# Altium footprint library Connector_Molex.PcbLib: 815 footprints (part 44 of 51)
Each footprint in its own frame and in the unit in brackets; x right, y up, seen from the top. Pads: shape width x height; smd on the part's side, far side on the other; paste and mask are expansions set on the pad; w line width, h text height; cw(c..) or ccw(c..) is an arc to the next point about the centre after c.
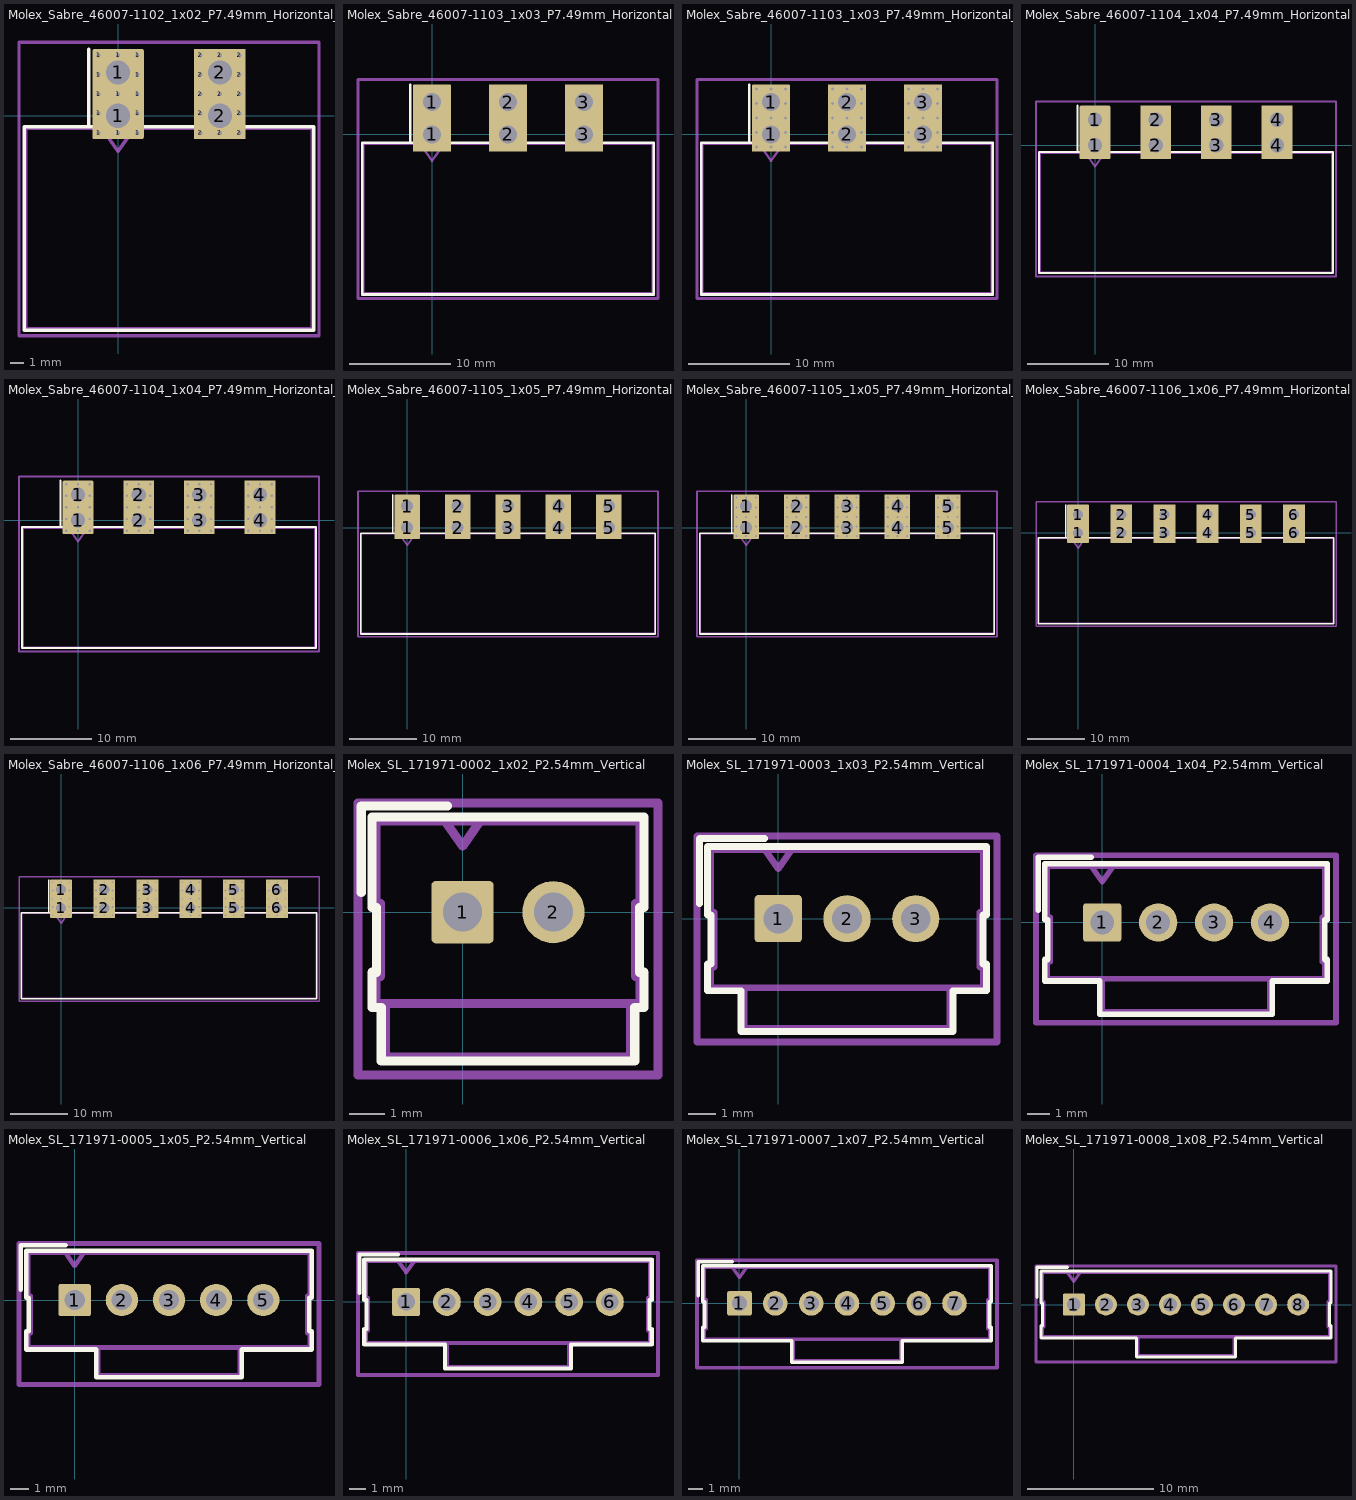
[diagram p43: the footprints below, top view; thin cyan lines are the x and y axes]

## Molex_Sabre_46007-1102_1x02_P7.49mm_Horizontal_ThermalVias [mm]
pads (30):
  rrect25% 0.6x0.6 hole 0.3: 1(-1.44,-1.265) 1(-1.44,0.162) 1(-1.44,1.59) 1(-1.44,3.017) 1(-1.44,4.445) 1(0,-1.265) 1(0,1.59) 1(0,4.445) 1(1.44,-1.265) 1(1.44,0.162) 1(1.44,1.59) 1(1.44,3.017) 1(1.44,4.445)
  rrect7% 3.78x3.43 hole 1.78: 1(0,0) 1(0,3.18)
  round 0.6 hole 0.3: 2(6.05,-1.265) 2(6.05,0.162) 2(6.05,1.59) 2(6.05,3.017) 2(6.05,4.445) 2(7.49,-1.265) 2(7.49,1.59) 2(7.49,4.445) 2(8.93,-1.265) 2(8.93,0.162) 2(8.93,1.59) 2(8.93,3.017) 2(8.93,4.445)
  rect 3.78x3.43 hole 1.78: 2(7.49,0) 2(7.49,3.18)
F.SilkS:
  lines w0.254: -2.15,-0.815 -2.15,4.895 ; 2.15,-0.815 5.34,-0.815 ; -6.9,-15.795 14.39,-15.795 14.39,-0.815 -6.9,-0.815 -6.9,-15.795
B.SilkS:
  lines w0.254: -2.15,-1.975 2.15,-1.975 2.15,5.155 -2.15,5.155 -2.15,-1.975
Top Assembly:
  lines w0.254: -1.2,-0.925 0,-2.622 1.2,-0.925 ; -6.79,-15.685 14.28,-15.685 14.28,-0.925 -6.79,-0.925 -6.79,-15.685 ; -0.5,-0.925 0.5,-0.925 0.5,4.07 -0.5,4.07 -0.5,-0.925 ; 6.99,-0.925 7.99,-0.925 7.99,4.07 6.99,4.07 6.99,-0.925
  text "'.Designator'" at -0.297,-15.82 h1
Top Courtyard:
  lines w0.254: -7.29,-16.19 14.78,-16.19 14.78,5.4 -7.29,5.4 -7.29,-16.19
Top Designator:
  text ".Designator" at -3.873,-5.903 h1.52

## Molex_Sabre_46007-1103_1x03_P7.49mm_Horizontal [mm]
pads (6):
  rrect7% 3.78x3.43 hole 1.78: 1(0,0) 1(0,3.18)
  rect 3.78x3.43 hole 1.78: 2(7.49,0) 2(7.49,3.18) 3(14.98,0) 3(14.98,3.18)
F.SilkS:
  lines w0.254: -2.15,-0.815 -2.15,4.895 ; 2.15,-0.815 5.34,-0.815 ; 9.64,-0.815 12.83,-0.815 ; -6.9,-15.795 21.88,-15.795 21.88,-0.815 -6.9,-0.815 -6.9,-15.795
B.SilkS:
  lines w0.254: -2.15,-1.975 2.15,-1.975 2.15,5.155 -2.15,5.155 -2.15,-1.975
Top Assembly:
  lines w0.254: -1.2,-0.925 0,-2.622 1.2,-0.925 ; -6.79,-15.685 21.77,-15.685 21.77,-0.925 -6.79,-0.925 -6.79,-15.685 ; -0.5,-0.925 0.5,-0.925 0.5,4.07 -0.5,4.07 -0.5,-0.925 ; 6.99,-0.925 7.99,-0.925 7.99,4.07 6.99,4.07 6.99,-0.925 ; 14.48,-0.925 15.48,-0.925 15.48,4.07 14.48,4.07 14.48,-0.925
  text "'.Designator'" at 3.443,-15.82 h1
Top Courtyard:
  lines w0.254: -7.3,-16.19 22.28,-16.19 22.28,5.4 -7.3,5.4 -7.3,-16.19
Top Designator:
  text ".Designator" at -0.128,-5.903 h1.52

## Molex_Sabre_46007-1103_1x03_P7.49mm_Horizontal_ThermalVias [mm]
pads (45):
  rrect25% 0.6x0.6 hole 0.3: 1(-1.44,-1.265) 1(-1.44,0.162) 1(-1.44,1.59) 1(-1.44,3.017) 1(-1.44,4.445) 1(0,-1.265) 1(0,1.59) 1(0,4.445) 1(1.44,-1.265) 1(1.44,0.162) 1(1.44,1.59) 1(1.44,3.017) 1(1.44,4.445)
  rrect7% 3.78x3.43 hole 1.78: 1(0,0) 1(0,3.18)
  round 0.6 hole 0.3: 2(6.05,-1.265) 2(6.05,0.162) 2(6.05,1.59) 2(6.05,3.017) 2(6.05,4.445) 2(7.49,-1.265) 2(7.49,1.59) 2(7.49,4.445) 2(8.93,-1.265) 2(8.93,0.162) 2(8.93,1.59) 2(8.93,3.017) 2(8.93,4.445) 3(13.54,-1.265) 3(13.54,0.162) 3(13.54,1.59) 3(13.54,3.017) 3(13.54,4.445) 3(14.98,-1.265) 3(14.98,1.59) 3(14.98,4.445) 3(16.42,-1.265) 3(16.42,0.162) 3(16.42,1.59) 3(16.42,3.017) 3(16.42,4.445)
  rect 3.78x3.43 hole 1.78: 2(7.49,0) 2(7.49,3.18) 3(14.98,0) 3(14.98,3.18)
F.SilkS:
  lines w0.254: -2.15,-0.815 -2.15,4.895 ; 2.15,-0.815 5.34,-0.815 ; 9.64,-0.815 12.83,-0.815 ; -6.9,-15.795 21.88,-15.795 21.88,-0.815 -6.9,-0.815 -6.9,-15.795
B.SilkS:
  lines w0.254: -2.15,-1.975 2.15,-1.975 2.15,5.155 -2.15,5.155 -2.15,-1.975
Top Assembly:
  lines w0.254: -1.2,-0.925 0,-2.622 1.2,-0.925 ; -6.79,-15.685 21.77,-15.685 21.77,-0.925 -6.79,-0.925 -6.79,-15.685 ; -0.5,-0.925 0.5,-0.925 0.5,4.07 -0.5,4.07 -0.5,-0.925 ; 6.99,-0.925 7.99,-0.925 7.99,4.07 6.99,4.07 6.99,-0.925 ; 14.48,-0.925 15.48,-0.925 15.48,4.07 14.48,4.07 14.48,-0.925
  text "'.Designator'" at 3.443,-15.82 h1
Top Courtyard:
  lines w0.254: -7.3,-16.19 22.28,-16.19 22.28,5.4 -7.3,5.4 -7.3,-16.19
Top Designator:
  text ".Designator" at -0.128,-5.903 h1.52

## Molex_Sabre_46007-1104_1x04_P7.49mm_Horizontal [mm]
pads (8):
  rrect7% 3.78x3.43 hole 1.78: 1(0,0) 1(0,3.18)
  rect 3.78x3.43 hole 1.78: 2(7.49,0) 2(7.49,3.18) 3(14.98,0) 3(14.98,3.18) 4(22.47,0) 4(22.47,3.18)
F.SilkS:
  lines w0.254: -2.15,-0.815 -2.15,4.895 ; 2.15,-0.815 5.34,-0.815 ; 9.64,-0.815 12.83,-0.815 ; 17.13,-0.815 20.32,-0.815 ; -6.9,-15.795 29.37,-15.795 29.37,-0.815 -6.9,-0.815 -6.9,-15.795
B.SilkS:
  lines w0.254: -2.15,-1.975 2.15,-1.975 2.15,5.155 -2.15,5.155 -2.15,-1.975
Top Assembly:
  lines w0.254: -1.2,-0.925 0,-2.622 1.2,-0.925 ; -6.79,-15.685 29.26,-15.685 29.26,-0.925 -6.79,-0.925 -6.79,-15.685 ; -0.5,-0.925 0.5,-0.925 0.5,4.07 -0.5,4.07 -0.5,-0.925 ; 6.99,-0.925 7.99,-0.925 7.99,4.07 6.99,4.07 6.99,-0.925 ; 14.48,-0.925 15.48,-0.925 15.48,4.07 14.48,4.07 14.48,-0.925 ; 21.97,-0.925 22.97,-0.925 22.97,4.07 21.97,4.07 21.97,-0.925
  text "'.Designator'" at 7.193,-15.82 h1
Top Courtyard:
  lines w0.254: -7.29,-16.19 29.76,-16.19 29.76,5.4 -7.29,5.4 -7.29,-16.19
Top Designator:
  text ".Designator" at 3.617,-5.903 h1.52

## Molex_Sabre_46007-1104_1x04_P7.49mm_Horizontal_ThermalVias [mm]
pads (60):
  rrect25% 0.6x0.6 hole 0.3: 1(-1.44,-1.265) 1(-1.44,0.162) 1(-1.44,1.59) 1(-1.44,3.017) 1(-1.44,4.445) 1(0,-1.265) 1(0,1.59) 1(0,4.445) 1(1.44,-1.265) 1(1.44,0.162) 1(1.44,1.59) 1(1.44,3.017) 1(1.44,4.445)
  rrect7% 3.78x3.43 hole 1.78: 1(0,0) 1(0,3.18)
  round 0.6 hole 0.3: 2(6.05,-1.265) 2(6.05,0.162) 2(6.05,1.59) 2(6.05,3.017) 2(6.05,4.445) 2(7.49,-1.265) 2(7.49,1.59) 2(7.49,4.445) 2(8.93,-1.265) 2(8.93,0.162) 2(8.93,1.59) 2(8.93,3.017) 2(8.93,4.445) 3(13.54,-1.265) 3(13.54,0.162) 3(13.54,1.59) 3(13.54,3.017) 3(13.54,4.445) 3(14.98,-1.265) 3(14.98,1.59) 3(14.98,4.445) 3(16.42,-1.265) 3(16.42,0.162) 3(16.42,1.59) 3(16.42,3.017) 3(16.42,4.445) 4(21.03,-1.265) 4(21.03,0.162) 4(21.03,1.59) 4(21.03,3.017) 4(21.03,4.445) 4(22.47,-1.265) 4(22.47,1.59) 4(22.47,4.445) 4(23.91,-1.265) 4(23.91,0.162) 4(23.91,1.59) 4(23.91,3.017) 4(23.91,4.445)
  rect 3.78x3.43 hole 1.78: 2(7.49,0) 2(7.49,3.18) 3(14.98,0) 3(14.98,3.18) 4(22.47,0) 4(22.47,3.18)
F.SilkS:
  lines w0.254: -2.15,-0.815 -2.15,4.895 ; 2.15,-0.815 5.34,-0.815 ; 9.64,-0.815 12.83,-0.815 ; 17.13,-0.815 20.32,-0.815 ; -6.9,-15.795 29.37,-15.795 29.37,-0.815 -6.9,-0.815 -6.9,-15.795
B.SilkS:
  lines w0.254: -2.15,-1.975 2.15,-1.975 2.15,5.155 -2.15,5.155 -2.15,-1.975
Top Assembly:
  lines w0.254: -1.2,-0.925 0,-2.622 1.2,-0.925 ; -6.79,-15.685 29.26,-15.685 29.26,-0.925 -6.79,-0.925 -6.79,-15.685 ; -0.5,-0.925 0.5,-0.925 0.5,4.07 -0.5,4.07 -0.5,-0.925 ; 6.99,-0.925 7.99,-0.925 7.99,4.07 6.99,4.07 6.99,-0.925 ; 14.48,-0.925 15.48,-0.925 15.48,4.07 14.48,4.07 14.48,-0.925 ; 21.97,-0.925 22.97,-0.925 22.97,4.07 21.97,4.07 21.97,-0.925
  text "'.Designator'" at 7.193,-15.82 h1
Top Courtyard:
  lines w0.254: -7.29,-16.19 29.76,-16.19 29.76,5.4 -7.29,5.4 -7.29,-16.19
Top Designator:
  text ".Designator" at 3.617,-5.903 h1.52

## Molex_Sabre_46007-1105_1x05_P7.49mm_Horizontal [mm]
pads (10):
  rrect7% 3.78x3.43 hole 1.78: 1(0,0) 1(0,3.18)
  rect 3.78x3.43 hole 1.78: 2(7.49,0) 2(7.49,3.18) 3(14.98,0) 3(14.98,3.18) 4(22.47,0) 4(22.47,3.18) 5(29.96,0) 5(29.96,3.18)
F.SilkS:
  lines w0.254: -2.15,-0.815 -2.15,4.895 ; 2.15,-0.815 5.34,-0.815 ; 9.64,-0.815 12.83,-0.815 ; 17.13,-0.815 20.32,-0.815 ; 24.62,-0.815 27.81,-0.815 ; -6.9,-15.795 36.86,-15.795 36.86,-0.815 -6.9,-0.815 -6.9,-15.795
B.SilkS:
  lines w0.254: -2.15,-1.975 2.15,-1.975 2.15,5.155 -2.15,5.155 -2.15,-1.975
Top Assembly:
  lines w0.254: -1.2,-0.925 0,-2.622 1.2,-0.925 ; -6.79,-15.685 36.75,-15.685 36.75,-0.925 -6.79,-0.925 -6.79,-15.685 ; -0.5,-0.925 0.5,-0.925 0.5,4.07 -0.5,4.07 -0.5,-0.925 ; 6.99,-0.925 7.99,-0.925 7.99,4.07 6.99,4.07 6.99,-0.925 ; 14.48,-0.925 15.48,-0.925 15.48,4.07 14.48,4.07 14.48,-0.925 ; 21.97,-0.925 22.97,-0.925 22.97,4.07 21.97,4.07 21.97,-0.925 ; 29.46,-0.925 30.46,-0.925 30.46,4.07 29.46,4.07 29.46,-0.925
  text "'.Designator'" at 10.933,-15.82 h1
Top Courtyard:
  lines w0.254: -7.29,-16.19 37.25,-16.19 37.25,5.4 -7.29,5.4 -7.29,-16.19
Top Designator:
  text ".Designator" at 7.362,-5.903 h1.52

## Molex_Sabre_46007-1105_1x05_P7.49mm_Horizontal_ThermalVias [mm]
pads (75):
  rrect25% 0.6x0.6 hole 0.3: 1(-1.44,-1.265) 1(-1.44,0.162) 1(-1.44,1.59) 1(-1.44,3.017) 1(-1.44,4.445) 1(0,-1.265) 1(0,1.59) 1(0,4.445) 1(1.44,-1.265) 1(1.44,0.162) 1(1.44,1.59) 1(1.44,3.017) 1(1.44,4.445)
  rrect7% 3.78x3.43 hole 1.78: 1(0,0) 1(0,3.18)
  round 0.6 hole 0.3: 2(6.05,-1.265) 2(6.05,0.162) 2(6.05,1.59) 2(6.05,3.017) 2(6.05,4.445) 2(7.49,-1.265) 2(7.49,1.59) 2(7.49,4.445) 2(8.93,-1.265) 2(8.93,0.162) 2(8.93,1.59) 2(8.93,3.017) 2(8.93,4.445) 3(13.54,-1.265) 3(13.54,0.162) 3(13.54,1.59) 3(13.54,3.017) 3(13.54,4.445) 3(14.98,-1.265) 3(14.98,1.59) 3(14.98,4.445) 3(16.42,-1.265) 3(16.42,0.162) 3(16.42,1.59) 3(16.42,3.017) 3(16.42,4.445) 4(21.03,-1.265) 4(21.03,0.162) 4(21.03,1.59) 4(21.03,3.017) 4(21.03,4.445) 4(22.47,-1.265) 4(22.47,1.59) 4(22.47,4.445) 4(23.91,-1.265) 4(23.91,0.162) 4(23.91,1.59) 4(23.91,3.017) 4(23.91,4.445) 5(28.52,-1.265) 5(28.52,0.162) 5(28.52,1.59) 5(28.52,3.017) 5(28.52,4.445) 5(29.96,-1.265) 5(29.96,1.59) 5(29.96,4.445) 5(31.4,-1.265) 5(31.4,0.162) 5(31.4,1.59) 5(31.4,3.017) 5(31.4,4.445)
  rect 3.78x3.43 hole 1.78: 2(7.49,0) 2(7.49,3.18) 3(14.98,0) 3(14.98,3.18) 4(22.47,0) 4(22.47,3.18) 5(29.96,0) 5(29.96,3.18)
F.SilkS:
  lines w0.254: -2.15,-0.815 -2.15,4.895 ; 2.15,-0.815 5.34,-0.815 ; 9.64,-0.815 12.83,-0.815 ; 17.13,-0.815 20.32,-0.815 ; 24.62,-0.815 27.81,-0.815 ; -6.9,-15.795 36.86,-15.795 36.86,-0.815 -6.9,-0.815 -6.9,-15.795
B.SilkS:
  lines w0.254: -2.15,-1.975 2.15,-1.975 2.15,5.155 -2.15,5.155 -2.15,-1.975
Top Assembly:
  lines w0.254: -1.2,-0.925 0,-2.622 1.2,-0.925 ; -6.79,-15.685 36.75,-15.685 36.75,-0.925 -6.79,-0.925 -6.79,-15.685 ; -0.5,-0.925 0.5,-0.925 0.5,4.07 -0.5,4.07 -0.5,-0.925 ; 6.99,-0.925 7.99,-0.925 7.99,4.07 6.99,4.07 6.99,-0.925 ; 14.48,-0.925 15.48,-0.925 15.48,4.07 14.48,4.07 14.48,-0.925 ; 21.97,-0.925 22.97,-0.925 22.97,4.07 21.97,4.07 21.97,-0.925 ; 29.46,-0.925 30.46,-0.925 30.46,4.07 29.46,4.07 29.46,-0.925
  text "'.Designator'" at 10.933,-15.82 h1
Top Courtyard:
  lines w0.254: -7.29,-16.19 37.25,-16.19 37.25,5.4 -7.29,5.4 -7.29,-16.19
Top Designator:
  text ".Designator" at 7.362,-5.903 h1.52

## Molex_Sabre_46007-1106_1x06_P7.49mm_Horizontal [mm]
pads (12):
  rrect7% 3.78x3.43 hole 1.78: 1(0,0) 1(0,3.18)
  rect 3.78x3.43 hole 1.78: 2(7.49,0) 2(7.49,3.18) 3(14.98,0) 3(14.98,3.18) 4(22.47,0) 4(22.47,3.18) 5(29.96,0) 5(29.96,3.18) 6(37.45,0) 6(37.45,3.18)
F.SilkS:
  lines w0.254: -2.15,-0.815 -2.15,4.895 ; 2.15,-0.815 5.34,-0.815 ; 9.64,-0.815 12.83,-0.815 ; 17.13,-0.815 20.32,-0.815 ; 24.62,-0.815 27.81,-0.815 ; 32.11,-0.815 35.3,-0.815 ; -6.9,-15.795 44.35,-15.795 44.35,-0.815 -6.9,-0.815 -6.9,-15.795
B.SilkS:
  lines w0.254: -2.15,-1.975 2.15,-1.975 2.15,5.155 -2.15,5.155 -2.15,-1.975
Top Assembly:
  lines w0.254: -1.2,-0.925 0,-2.622 1.2,-0.925 ; -6.79,-15.685 44.24,-15.685 44.24,-0.925 -6.79,-0.925 -6.79,-15.685 ; -0.5,-0.925 0.5,-0.925 0.5,4.07 -0.5,4.07 -0.5,-0.925 ; 6.99,-0.925 7.99,-0.925 7.99,4.07 6.99,4.07 6.99,-0.925 ; 14.48,-0.925 15.48,-0.925 15.48,4.07 14.48,4.07 14.48,-0.925 ; 21.97,-0.925 22.97,-0.925 22.97,4.07 21.97,4.07 21.97,-0.925 ; 29.46,-0.925 30.46,-0.925 30.46,4.07 29.46,4.07 29.46,-0.925 ; 36.95,-0.925 37.95,-0.925 37.95,4.07 36.95,4.07 36.95,-0.925
  text "'.Designator'" at 14.673,-15.82 h1
Top Courtyard:
  lines w0.254: -7.29,-16.19 44.74,-16.19 44.74,5.4 -7.29,5.4 -7.29,-16.19
Top Designator:
  text ".Designator" at 11.107,-5.903 h1.52

## Molex_Sabre_46007-1106_1x06_P7.49mm_Horizontal_ThermalVias [mm]
pads (90):
  rrect25% 0.6x0.6 hole 0.3: 1(-1.44,-1.265) 1(-1.44,0.162) 1(-1.44,1.59) 1(-1.44,3.017) 1(-1.44,4.445) 1(0,-1.265) 1(0,1.59) 1(0,4.445) 1(1.44,-1.265) 1(1.44,0.162) 1(1.44,1.59) 1(1.44,3.017) 1(1.44,4.445)
  rrect7% 3.78x3.43 hole 1.78: 1(0,0) 1(0,3.18)
  round 0.6 hole 0.3: 2(6.05,-1.265) 2(6.05,0.162) 2(6.05,1.59) 2(6.05,3.017) 2(6.05,4.445) 2(7.49,-1.265) 2(7.49,1.59) 2(7.49,4.445) 2(8.93,-1.265) 2(8.93,0.162) 2(8.93,1.59) 2(8.93,3.017) 2(8.93,4.445) 3(13.54,-1.265) 3(13.54,0.162) 3(13.54,1.59) 3(13.54,3.017) 3(13.54,4.445) 3(14.98,-1.265) 3(14.98,1.59) 3(14.98,4.445) 3(16.42,-1.265) 3(16.42,0.162) 3(16.42,1.59) 3(16.42,3.017) 3(16.42,4.445) 4(21.03,-1.265) 4(21.03,0.162) 4(21.03,1.59) 4(21.03,3.017) 4(21.03,4.445) 4(22.47,-1.265) 4(22.47,1.59) 4(22.47,4.445) 4(23.91,-1.265) 4(23.91,0.162) 4(23.91,1.59) 4(23.91,3.017) 4(23.91,4.445) 5(28.52,-1.265) 5(28.52,0.162) 5(28.52,1.59) 5(28.52,3.017) 5(28.52,4.445) 5(29.96,-1.265) 5(29.96,1.59) 5(29.96,4.445) 5(31.4,-1.265) 5(31.4,0.162) 5(31.4,1.59) 5(31.4,3.017) 5(31.4,4.445) 6(36.01,-1.265) 6(36.01,0.162) 6(36.01,1.59) 6(36.01,3.017) 6(36.01,4.445) 6(37.45,-1.265) 6(37.45,1.59) 6(37.45,4.445) 6(38.89,-1.265) 6(38.89,0.162) 6(38.89,1.59) 6(38.89,3.017) 6(38.89,4.445)
  rect 3.78x3.43 hole 1.78: 2(7.49,0) 2(7.49,3.18) 3(14.98,0) 3(14.98,3.18) 4(22.47,0) 4(22.47,3.18) 5(29.96,0) 5(29.96,3.18) 6(37.45,0) 6(37.45,3.18)
F.SilkS:
  lines w0.254: -2.15,-0.815 -2.15,4.895 ; 2.15,-0.815 5.34,-0.815 ; 9.64,-0.815 12.83,-0.815 ; 17.13,-0.815 20.32,-0.815 ; 24.62,-0.815 27.81,-0.815 ; 32.11,-0.815 35.3,-0.815 ; -6.9,-15.795 44.35,-15.795 44.35,-0.815 -6.9,-0.815 -6.9,-15.795
B.SilkS:
  lines w0.254: -2.15,-1.975 2.15,-1.975 2.15,5.155 -2.15,5.155 -2.15,-1.975
Top Assembly:
  lines w0.254: -1.2,-0.925 0,-2.622 1.2,-0.925 ; -6.79,-15.685 44.24,-15.685 44.24,-0.925 -6.79,-0.925 -6.79,-15.685 ; -0.5,-0.925 0.5,-0.925 0.5,4.07 -0.5,4.07 -0.5,-0.925 ; 6.99,-0.925 7.99,-0.925 7.99,4.07 6.99,4.07 6.99,-0.925 ; 14.48,-0.925 15.48,-0.925 15.48,4.07 14.48,4.07 14.48,-0.925 ; 21.97,-0.925 22.97,-0.925 22.97,4.07 21.97,4.07 21.97,-0.925 ; 29.46,-0.925 30.46,-0.925 30.46,4.07 29.46,4.07 29.46,-0.925 ; 36.95,-0.925 37.95,-0.925 37.95,4.07 36.95,4.07 36.95,-0.925
  text "'.Designator'" at 14.673,-15.82 h1
Top Courtyard:
  lines w0.254: -7.29,-16.19 44.74,-16.19 44.74,5.4 -7.29,5.4 -7.29,-16.19
Top Designator:
  text ".Designator" at 11.107,-5.903 h1.52

## Molex_SL_171971-0002_1x02_P2.54mm_Vertical [mm]
pads (2):
  rrect14% 1.74x1.74 hole 1.09: 1(0,0)
  round 1.74 hole 1.09: 2(2.54,0)
F.SilkS:
  lines w0.254: -2.83,0.55 -2.83,2.96 -0.42,2.96 ; -2.53,-2.66 -2.27,-2.66 -2.27,-4.16 4.81,-4.16 4.81,-2.66 5.07,-2.66 5.07,-1.68 4.94,-1.68 4.94,0.13 5.07,0.13 5.07,2.66 -2.53,2.66 -2.53,0.13 -2.4,0.13 -2.4,-1.68 -2.53,-1.68 -2.53,-2.66
Top Assembly:
  lines w0.254: -2.16,-2.55 -2.16,-4.05 4.7,-4.05 4.7,-2.55 ; -0.5,2.55 0,1.843 0.5,2.55 ; -2.42,-2.55 4.96,-2.55 4.96,-1.79 4.83,-1.79 4.83,0.24 4.96,0.24 4.96,2.55 -2.42,2.55 -2.42,0.24 -2.29,0.24 -2.29,-1.79 -2.42,-1.79 -2.42,-2.55
  text "'.Designator'" at -2.777,-2.69 h1
Top Courtyard:
  lines w0.254: -2.92,-4.55 5.46,-4.55 5.46,3.05 -2.92,3.05 -2.92,-4.55
Top Designator:
  text ".Designator" at -6.348,-1.258 h1.52

## Molex_SL_171971-0003_1x03_P2.54mm_Vertical [mm]
pads (3):
  rrect14% 1.74x1.74 hole 1.09: 1(0,0)
  round 1.74 hole 1.09: 2(2.54,0) 3(5.08,0)
F.SilkS:
  lines w0.254: -2.91,0.55 -2.91,2.96 -0.5,2.96 ; -2.61,-2.66 -1.38,-2.66 -1.38,-4.16 6.46,-4.16 6.46,-2.66 7.69,-2.66 7.69,-1.68 7.56,-1.68 7.56,0.13 7.69,0.13 7.69,2.66 -2.61,2.66 -2.61,0.13 -2.48,0.13 -2.48,-1.68 -2.61,-1.68 -2.61,-2.66
Top Assembly:
  lines w0.254: -1.27,-2.55 -1.27,-4.05 6.35,-4.05 6.35,-2.55 ; -0.5,2.55 0,1.843 0.5,2.55 ; -2.5,-2.55 7.58,-2.55 7.58,-1.79 7.45,-1.79 7.45,0.24 7.58,0.24 7.58,2.55 -2.5,2.55 -2.5,0.24 -2.37,0.24 -2.37,-1.79 -2.5,-1.79 -2.5,-2.55
  text "'.Designator'" at -1.507,-2.69 h1
Top Courtyard:
  lines w0.254: -3,-4.55 8.08,-4.55 8.08,3.05 -3,3.05 -3,-4.55
Top Designator:
  text ".Designator" at -5.078,-1.258 h1.52

## Molex_SL_171971-0004_1x04_P2.54mm_Vertical [mm]
pads (4):
  rrect14% 1.74x1.74 hole 1.09: 1(0,0)
  round 1.74 hole 1.09: 2(2.54,0) 3(5.08,0) 4(7.62,0)
F.SilkS:
  lines w0.254: -2.91,0.55 -2.91,2.96 -0.5,2.96 ; -2.61,-2.66 -0.11,-2.66 -0.11,-4.16 7.73,-4.16 7.73,-2.66 10.23,-2.66 10.23,-1.68 10.1,-1.68 10.1,0.13 10.23,0.13 10.23,2.66 -2.61,2.66 -2.61,0.13 -2.48,0.13 -2.48,-1.68 -2.61,-1.68 -2.61,-2.66
Top Assembly:
  lines w0.254: -0.5,2.55 0,1.843 0.5,2.55 ; 0,-2.55 0,-4.05 7.62,-4.05 7.62,-2.55 ; -2.5,-2.55 10.12,-2.55 10.12,-1.79 9.99,-1.79 9.99,0.24 10.12,0.24 10.12,2.55 -2.5,2.55 -2.5,0.24 -2.37,0.24 -2.37,-1.79 -2.5,-1.79 -2.5,-2.55
  text "'.Designator'" at -0.237,-2.69 h1
Top Courtyard:
  lines w0.254: -3.01,-4.55 10.62,-4.55 10.62,3.05 -3.01,3.05 -3.01,-4.55
Top Designator:
  text ".Designator" at -3.813,-1.258 h1.52

## Molex_SL_171971-0005_1x05_P2.54mm_Vertical [mm]
pads (5):
  rrect14% 1.74x1.74 hole 1.09: 1(0,0)
  round 1.74 hole 1.09: 2(2.54,0) 3(5.08,0) 4(7.62,0) 5(10.16,0)
F.SilkS:
  lines w0.254: -2.91,0.55 -2.91,2.96 -0.5,2.96 ; -2.61,-2.66 1.16,-2.66 1.16,-4.16 9,-4.16 9,-2.66 12.77,-2.66 12.77,-1.68 12.64,-1.68 12.64,0.13 12.77,0.13 12.77,2.66 -2.61,2.66 -2.61,0.13 -2.48,0.13 -2.48,-1.68 -2.61,-1.68 -2.61,-2.66
Top Assembly:
  lines w0.254: -0.5,2.55 0,1.843 0.5,2.55 ; 1.27,-2.55 1.27,-4.05 8.89,-4.05 8.89,-2.55 ; -2.5,-2.55 12.66,-2.55 12.66,-1.79 12.53,-1.79 12.53,0.24 12.66,0.24 12.66,2.55 -2.5,2.55 -2.5,0.24 -2.37,0.24 -2.37,-1.79 -2.5,-1.79 -2.5,-2.55
  text "'.Designator'" at 1.033,-2.69 h1
Top Courtyard:
  lines w0.254: -3,-4.55 13.16,-4.55 13.16,3.05 -3,3.05 -3,-4.55
Top Designator:
  text ".Designator" at -2.538,-1.258 h1.52

## Molex_SL_171971-0006_1x06_P2.54mm_Vertical [mm]
pads (6):
  rrect14% 1.74x1.74 hole 1.09: 1(0,0)
  round 1.74 hole 1.09: 2(2.54,0) 3(5.08,0) 4(7.62,0) 5(10.16,0) 6(12.7,0)
F.SilkS:
  lines w0.254: -2.91,0.55 -2.91,2.96 -0.5,2.96 ; -2.61,-2.66 2.43,-2.66 2.43,-4.16 10.27,-4.16 10.27,-2.66 15.31,-2.66 15.31,-1.68 15.18,-1.68 15.18,0.13 15.31,0.13 15.31,2.66 -2.61,2.66 -2.61,0.13 -2.48,0.13 -2.48,-1.68 -2.61,-1.68 -2.61,-2.66
Top Assembly:
  lines w0.254: -0.5,2.55 0,1.843 0.5,2.55 ; 2.54,-2.55 2.54,-4.05 10.16,-4.05 10.16,-2.55 ; -2.5,-2.55 15.2,-2.55 15.2,-1.79 15.07,-1.79 15.07,0.24 15.2,0.24 15.2,2.55 -2.5,2.55 -2.5,0.24 -2.37,0.24 -2.37,-1.79 -2.5,-1.79 -2.5,-2.55
  text "'.Designator'" at 2.303,-2.69 h1
Top Courtyard:
  lines w0.254: -3,-4.55 15.7,-4.55 15.7,3.05 -3,3.05 -3,-4.55
Top Designator:
  text ".Designator" at -1.268,-1.258 h1.52

## Molex_SL_171971-0007_1x07_P2.54mm_Vertical [mm]
pads (7):
  rrect14% 1.74x1.74 hole 1.09: 1(0,0)
  round 1.74 hole 1.09: 2(2.54,0) 3(5.08,0) 4(7.62,0) 5(10.16,0) 6(12.7,0) 7(15.24,0)
F.SilkS:
  lines w0.254: -2.91,0.55 -2.91,2.96 -0.5,2.96 ; -2.61,-2.66 3.7,-2.66 3.7,-4.16 11.54,-4.16 11.54,-2.66 17.85,-2.66 17.85,-1.68 17.72,-1.68 17.72,0.13 17.85,0.13 17.85,2.66 -2.61,2.66 -2.61,0.13 -2.48,0.13 -2.48,-1.68 -2.61,-1.68 -2.61,-2.66
Top Assembly:
  lines w0.254: -0.5,2.55 0,1.843 0.5,2.55 ; 3.81,-2.55 3.81,-4.05 11.43,-4.05 11.43,-2.55 ; -2.5,-2.55 17.74,-2.55 17.74,-1.79 17.61,-1.79 17.61,0.24 17.74,0.24 17.74,2.55 -2.5,2.55 -2.5,0.24 -2.37,0.24 -2.37,-1.79 -2.5,-1.79 -2.5,-2.55
  text "'.Designator'" at 3.573,-2.69 h1
Top Courtyard:
  lines w0.254: -3.01,-4.55 18.25,-4.55 18.25,3.05 -3.01,3.05 -3.01,-4.55
Top Designator:
  text ".Designator" at 0.002,-1.258 h1.52

## Molex_SL_171971-0008_1x08_P2.54mm_Vertical [mm]
pads (8):
  rrect14% 1.74x1.74 hole 1.09: 1(0,0)
  round 1.74 hole 1.09: 2(2.54,0) 3(5.08,0) 4(7.62,0) 5(10.16,0) 6(12.7,0) 7(15.24,0) 8(17.78,0)
F.SilkS:
  lines w0.254: -2.91,0.55 -2.91,2.96 -0.5,2.96 ; -2.61,-2.66 4.97,-2.66 4.97,-4.16 12.81,-4.16 12.81,-2.66 20.39,-2.66 20.39,-1.68 20.26,-1.68 20.26,0.13 20.39,0.13 20.39,2.66 -2.61,2.66 -2.61,0.13 -2.48,0.13 -2.48,-1.68 -2.61,-1.68 -2.61,-2.66
Top Assembly:
  lines w0.254: -0.5,2.55 0,1.843 0.5,2.55 ; 5.08,-2.55 5.08,-4.05 12.7,-4.05 12.7,-2.55 ; -2.5,-2.55 20.28,-2.55 20.28,-1.79 20.15,-1.79 20.15,0.24 20.28,0.24 20.28,2.55 -2.5,2.55 -2.5,0.24 -2.37,0.24 -2.37,-1.79 -2.5,-1.79 -2.5,-2.55
  text "'.Designator'" at 4.843,-2.69 h1
Top Courtyard:
  lines w0.254: -3,-4.55 20.78,-4.55 20.78,3.05 -3,3.05 -3,-4.55
Top Designator:
  text ".Designator" at 1.272,-1.258 h1.52